# EAGLE library part IRS2336*(D) (library RoboJackets-PowerICs)
http://www.irf.com/product-info/datasheets/data/irs2336.pdf
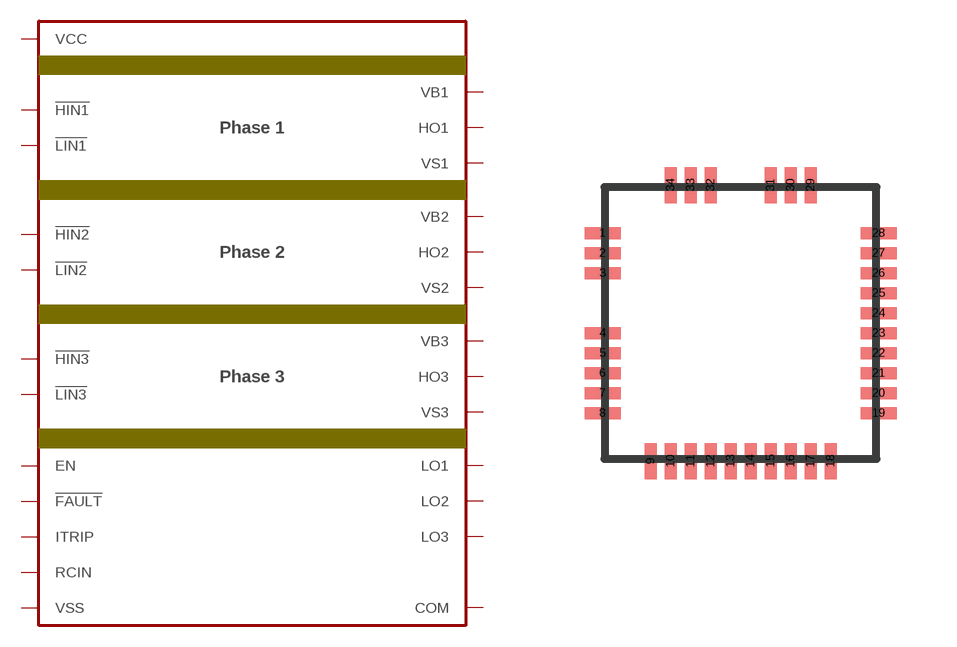
[diagram p0: symbol with the pads of MLPQ-7X7; footprint MLPQ-7X7]

Designator prefix IC

## IRS2336(D)  [MLPQ-7X7]
1  VS1
2  HO1
3  VB1
4  VCC  pwr
5  !HIN1!  in
6  !HIN2!  in
7  !HIN3!  in
9  !LIN1!  in
10  !LIN2!  in
11  !LIN3!  in
13  !FAULT!
15  ITRIP
16  EN  in
17  RCIN
20  VSS  pwr
22  COM  oc
23  LO3  oc
24  LO2  oc
25  LO1  oc
29  VS3
30  HO3
31  VB3
32  VS2
33  HO2
34  VB2

## Footprint MLPQ-7X7 (pad centres in mm)
MLPQ-7X7 Auto generated by make-symbol-device-package-bsdl.ulp Rev. 43
smd 0.9 x 0.3: 1 -3.45,2.25; 2 -3.45,1.75; 3 -3.45,1.25; 4 -3.45,-0.25; 5 -3.45,-0.75; 6 -3.45,-1.25; 7 -3.45,-1.75; 8 -3.45,-2.25; 19 3.45,-2.25; 20 3.45,-1.75; 21 3.45,-1.25; 22 3.45,-0.75; 23 3.45,-0.25; 24 3.45,0.25; 25 3.45,0.75; 26 3.45,1.25; 27 3.45,1.75; 28 3.45,2.25
smd 0.3 x 0.9: 9 -2.25,-3.45; 10 -1.75,-3.45; 11 -1.25,-3.45; 12 -0.75,-3.45; 13 -0.25,-3.45; 14 0.25,-3.45; 15 0.75,-3.45; 16 1.25,-3.45; 17 1.75,-3.45; 18 2.25,-3.45; 29 1.75,3.45; 30 1.25,3.45; 31 0.75,3.45; 32 -0.75,3.45; 33 -1.25,3.45; 34 -1.75,3.45